# Altium footprint library Diodes.PcbLib: 37 footprints (part 3 of 3)
Each footprint in its own frame and in the unit in brackets; x right, y up, seen from the top. Pads: shape width x height; smd on the part's side, far side on the other; paste and mask are expansions set on the pad; w line width, h text height; cw(c..) or ccw(c..) is an arc to the next point about the centre after c.
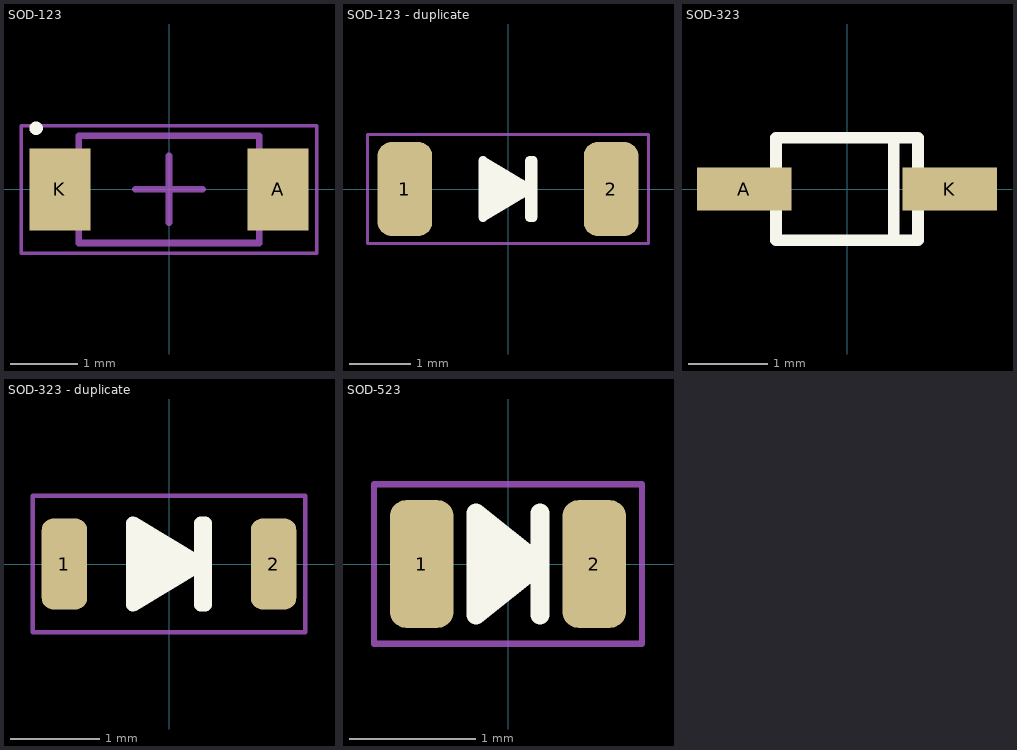
[diagram p2: the footprints below, top view; thin cyan lines are the x and y axes]

## SOD-123 [mm] "SOD-123, 2-Leads, Body 1.50x3.57mm, IPC Medium Density"
height 1.1
pads (2):
  rect 0.91x1.22 smd: A(1.625,0) K(-1.625,0)
Top Overlay:
  circle w0.1: c-1.98,0.91 r0.05
Mechanical 13:
  lines w0.1: -1.345,-0.8 -1.345,0.8 1.345,0.8 1.345,-0.8 -1.345,-0.8
Mechanical 15:
  lines w0.05: -2.2,-0.95 -2.2,0.95 2.2,0.95 2.2,-0.95 -2.2,-0.95
  lines w0.1: -0.5,0 0.5,0 ; 0,-0.5 0,0.5
3D body "SOD-123.step": height 1.1, standoff 0, extent -1.785,-0.8 1.785,0.8

## SOD-123 - duplicate [mil]
height 45.28
pads (2):
  rrect50% 35x60 smd: 1(-66,0) 2(66,0)
Top Overlay:
  region: -16,-18 -16,18 14,0
  lines w6: -16,-18 -16,18 14,0 -16,-18 ; 14,-18 14,18 16,18 16,-18 14,-18
Mechanical 13:
  lines w2: -10.01,0 9.99,0 ; -0.01,-10 -0.01,10
Mechanical 14:
  lines w2: -90,-35 -90,35 90,35 90,-35 -90,-35
3D body "User Library-SOD123-1.STEP": height 46.46, standoff 0, extent -76.78,-35.43 76.77,35.43

## SOD-323 [mm]
pads (2):
  rect 1.2x0.55 smd: A(-1.3,0) K(1.3,0)
Top Overlay:
  lines w0.15: 0.593,-0.633 0.593,0.633 ; -0.9,-0.65 -0.9,0.65 0.9,0.65 0.9,-0.65 -0.9,-0.65
3D body "SC90-SOD323F.STEP": height 0.75, standoff -0.01, extent -1.42,-0.682 1.38,0.668

## SOD-323 - duplicate [mil]
height 45.28
pads (2):
  rrect50% 20x40 smd: 1(-46,0) 2(46,0)
Top Overlay:
  region: -16,-18 -16,18 14,0
  lines w6: -16,-18 -16,18 14,0 -16,-18 ; 14,-18 14,18 16,18 16,-18 14,-18
Mechanical 13:
  lines w2: -10,0 10,0 ; 0,-10 0,10
Mechanical 14:
  lines w2: -60,-30 -60,30 60,30 60,-30 -60,-30
3D body "SOD323.STEP": height 43.31, standoff 0, extent -51.18,-26.58 51.18,26.58

## SOD-523 [mil]
height 45.28
pads (2):
  rrect50% 20x40 smd: 1(-27,0) 2(27,0)
Top Overlay:
  region: -10,16 -10,-16 10,0
  lines w6: 10,-16 10,16 ; -10,-16 10,0 -10,16 -10,-16
Mechanical 13:
  lines w2: -10,0 10,0 ; 0,-10 0,10
Mechanical 14:
  lines w2: -42,-25 42,-25 42,25 -42,25 -42,-25
3D body "User Library-SOD-523F.STEP": height 27.56, standoff 0, extent -31.5,-15.7 31.5,15.7